# Altium schematic symbol library MSP430F5438A.SCHLIB: 11 symbols
Pins are listed as number, name and electrical type; pins without a type are passive.

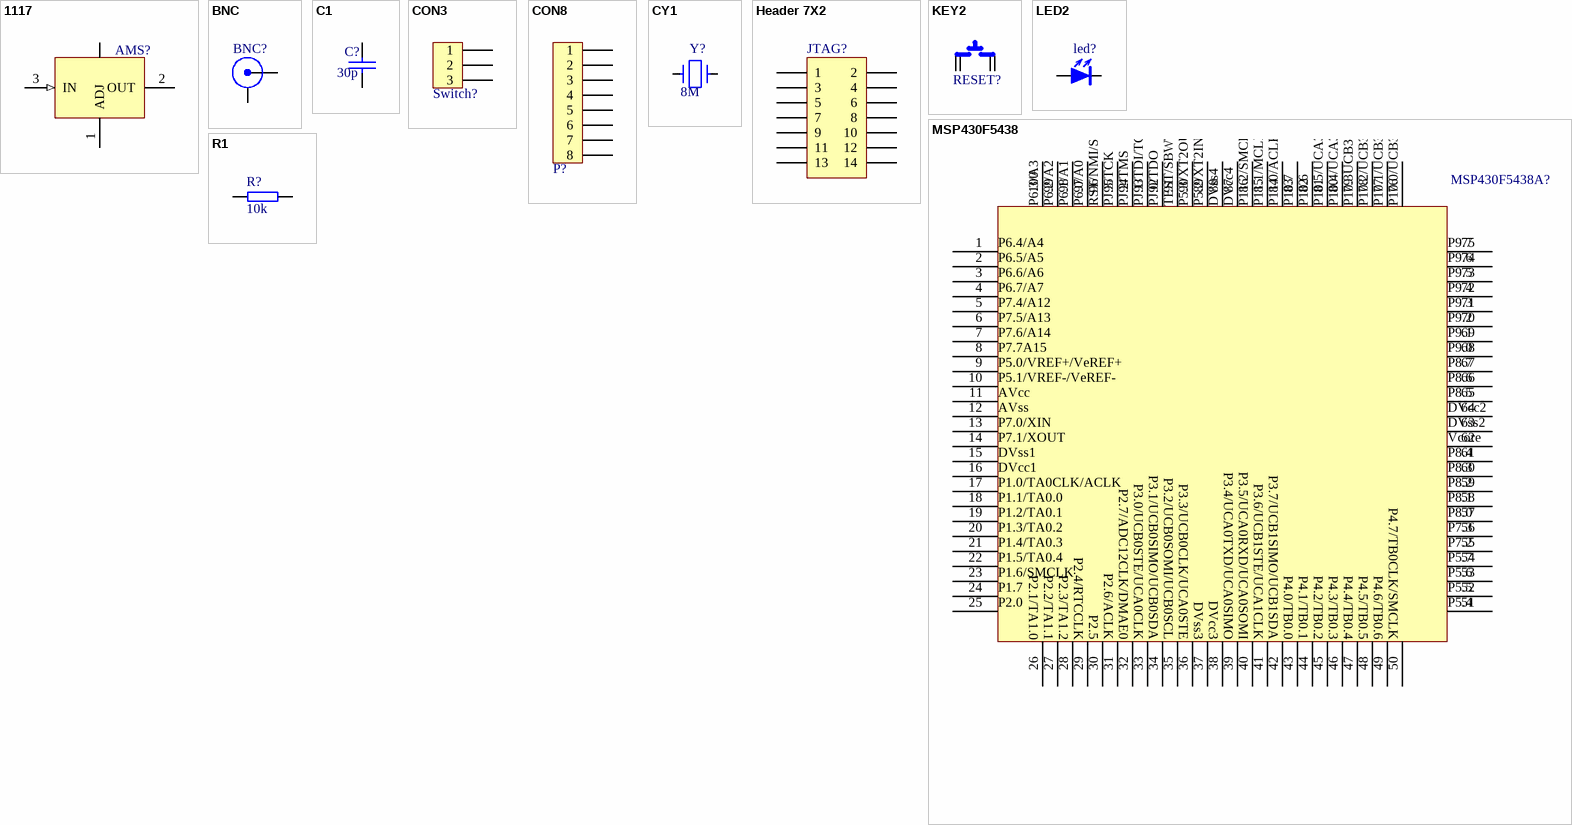
[diagram p0: symbols 1117 to R1]

## 1117
designator AMS?  (value not drawn)
footprint TO252
footprint SOT-223/P2.3
pins: 1 ADJ (power), 2 OUT (power), 3 IN (in), 4

## BNC
designator BNC?
footprint POWER0
pins: 1, 2

## C1
designator C?, comment 30p
0.1: *; 0.01: *; 0.47: *; 0.22: *; 0.022: *; 2.2n: *; 1n: *
footprint RAD1
footprint RAD2
footprint 1206
footprint 0805
pins: 1, 2

## CON3
designator Switch?  (value not drawn)
footprint SIP3
footprint POWER4.3
footprint POWER5.3
footprint 5脚船型开关
footprint 5脚船型开关
pins: 1, 2, 3

## CON8
designator P?  (value not drawn)
footprint SIP8
footprint IDC8
footprint POWER4.8
footprint POWER5.8
pins: 1, 2, 3, 4, 5, 6, 7, 8

## CY1
designator Y?, comment 8M
footprint CY1
footprint RAD2
footprint RAD1
pins: 1, 2

## Header 7X2
designator JTAG?  (value not drawn)
Header, 7-Pin, Dual row; Revision: 17-Jul-2002: Re-released for DXP Platform.; Publisher: Altium Limited
footprint HDR2X7 (Connector; Header; 7x2 Position)
signal-integrity model Connector
footprint IDC14A
pins: 1, 2, 3, 4, 5, 6, 7, 8, 9, 10, 11, 12, 13, 14

## KEY2
designator RESET?  (value not drawn)
footprint KEY0.2'
pins: 1, 2, 3, 4

## LED2
designator led?  (value not drawn)
footprint 0805
pins: 1, 2

## MSP430F5438
designator MSP430F5438A?
footprint TQFP_100
pins: 1, 2, 3, 4, 5, 6, 7, 8, 9, 10, 11, 12, 13, 14, 15, 16, 17, 18, 19, 20, 21, 22, 23, 24, 25, 26, 27, 28, 29, 30, 31, 32, 33, 34, 35, 36, 37, 38, 39, 40, 41, 42, 43, 44, 45, 46, 47, 48, 49, 50, 51, 52, 53, 54, 55, 56, 57, 58, 59, 60, 61, 62, 63, 64, 65, 66, 67, 68, 69, 70, 71, 72, 73, 74, 75, 76, 77, 78, 79, 80, 81, 82, 83, 84, 85, 86, 87, 88, 89, 90, 91, 92, 93, 94, 95, 96, 97, 98, 99, 100
text: P6.3/A3; P6.2/A2; P6.1/A1; P6.0/A0; RST/NMI/SBWTDIO; PJ.3/TCK; PJ.2/TMS; PJ.1/TDI/TCLK; PJ.0/TDO; TEST/SBWTCK; P5.3/XT2OUT; P5.2/XT2IN; DVss4; DVcc4; P11.2/SMCLK; P11.1/MCLK; P11.0/ACLK; P10.7; P10.6; P10.5/UCA3RXD/UCA3SOMI; P10.4/UCA3TXD/UCA3SIMO; P10.3UCB3CLK/UCA3STE; P10.2/UCB3SOMI/UCB3SCL; P10.1/UCB3SIMO/UCB3SDA; P10.0/UCB3STE/UCA3CLK; P6.4/A4; P9.7; P6.5/A5; P9.6; P6.6/A6; P9.5; P6.7/A7; P9.4; P7.4/A12; P9.3; P7.5/A13; P9.2; P7.6/A14; P9.1; P7.7A15; P9.0; P5.0/VREF+/VeREF+; P8.7; P5.1/VREF-/VeREF-; P8.6; AVcc; P8.5; AVss; DVcc2; P7.0/XIN; DVss2; P7.1/XOUT; Vcore; DVss1; P8.4; DVcc1; P8.3; P1.0/TA0CLK/ACLK; P8.2; P1.1/TA0.0; P8.1; P1.2/TA0.1; P8.0; P1.3/TA0.2; P7.3; P1.4/TA0.3; P7.2; P1.5/TA0.4; P5.7; P1.6/SMCLK; P5.6; P1.7; P5.5; P2.0; P5.4; P2.1/TA1.0; P2.2/TA1.1; P2.3/TA1.2; P2.4/RTCCLK; P2.5; P2.6/ACLK; P2.7/ADC12CLK/DMAE0; P3.0/UCB0STE/UCA0CLK; P3.1/UCB0SIMO/UCB0SDA; P3.2/UCB0SOMI/UCB0SCL; P3.3/UCB0CLK/UCA0STE; DVss3; DVcc3; P3.4/UCA0TXD/UCA0SIMO; P3.5/UCA0RXD/UCA0SOMI; P3.6/UCB1STE/UCA1CLK; P3.7/UCB1SIMO/UCB1SDA; P4.0/TB0.0; P4.1/TB0.1; P4.2/TB0.2; P4.3/TB0.3; P4.4/TB0.4; P4.5/TB0.5; P4.6/TB0.6; P4.7/TB0CLK/SMCLK

## R1
designator R?, comment 10k
footprint RES2
footprint RES3
footprint RES4
footprint 0805
pins: 1, 2